# EAGLE library part BJT_PNP_DUAL (library GaN_Fet_ESC_V0.2)
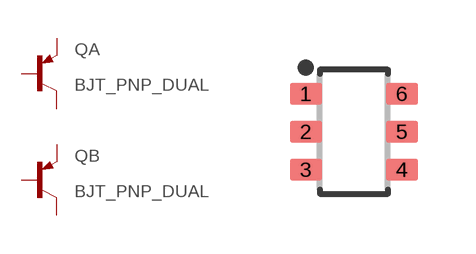
[diagram p0: symbol with the pads of SC-74; footprint SC-74]

Designator prefix Q; gates A=PNP B=PNP

## BJT_PNP_DUAL/BCM53DS  [SC-74]
1  A:B  pas
2  B:B  pas
3  B:C  pas
4  B:E  pas
5  A:E  pas
6  A:C  pas

## BJT_PNP_DUAL/BCM857  [SC-74]
1  A:E  pas
2  A:B  pas
3  B:C  pas
4  B:E  pas
5  B:B  pas
6  A:C  pas

## Footprint SC-74 (pad centres in mm)
smd 0.8 x 0.55: 1 -1.2,0.95; 2 -1.2,0; 3 -1.2,-0.95; 4 1.2,-0.95; 5 1.2,0; 6 1.2,0.95